# Altium schematic symbol library BAR43.SchLib: 2 symbols
Pins are listed as number, name and electrical type; pins without a type are passive.

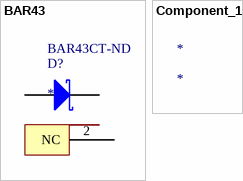
[diagram p0: symbols BAR43 to Component_1]

## BAR43
designator D?  Supplier Part Number 1: BAR43CT-ND
DIODE SCHOTTKY 30V 200MA SOT23-3; Manufacturer: Fairchild Semiconductor; Manufacturer Part Number: BAR43; Forward Voltage: 800mV; Current Rating: 200A; Reverse Recovery Time: 5ns; Max Forward Surge Current (Ifsm): 750mA; Element Configuration: Single; Peak Reverse Current: 500nA; Polarity: Standard; Supplier 1: Digikey; Stock 1: 14492; Pricing 1: 1=0.22, 10=0.178, 100=0.0943, 500=0.0621, 1000=0.0422 (USD); Mount: Surface Mount; Case/Package: SOT-23; Number of Pins: 3; Contact Plating: Tin; Min Operating Temperature: -55°C; Max Operating Temperature: 150°C; Packaging: Tape and Reel; Voltage Rating (DC): 30V; Forward Current: 200mA; Max Repetitive Reverse Voltage (Vrrm): 30V; Package Quantity: 3000; Reverse Voltage (DC): 30V; Average Rectified Current: 200mA; Peak Non-Repetitive Surge Current: 750mA; Max Surge Current: 750mA; Recovery Time: 5ns; Max Reverse Leakage Current: 500nA; Output Current: 200mA; Length: 2.92mm; Height: 0.93mm; Width: 1.3mm; Radiation Hardening: No; Lead Free: Lead Free; REACH SVHC: No SVHC; ComponentLink1URL: https://datasheet.ciiva.com/904/bar43-904392.pdf; ComponentLink1Description: https://datasheet.ciiva.com/904/bar43-904392.pdf; ComponentLink2URL: https://datasheet.ciiva.com/7965/1899813-7965125.pdf; ComponentLink2Description: https://datasheet.ciiva.com/7965/1899813-7965125.pdf; ComponentLink3URL: https://datasheet.ciiva.com/910/bar43-910475.pdf; ComponentLink3Description: https://datasheet.ciiva.com/910/bar43-910475.pdf; ComponentLink4URL: https://datasheet.ciiva.com/17004/bar43-17004267.pdf; ComponentLink4Description: https://datasheet.ciiva.com/17004/bar43-17004267.pdf; ComponentLink5URL: https://datasheet.ciiva.com/26230/bar43s-26230907.pdf; ComponentLink5Description: https://datasheet.ciiva.com/26230/bar43s-26230907.pdf; ComponentLink6URL: https://datasheet.ciiva.com/28468/668928-28468943.pdf; ComponentLink6Description: https://datasheet.ciiva.com/28468/668928-28468943.pdf
footprint SOT95P240X120-3N (SOT23, 3-Leads, Body 2.92x2.40mm, Pitch 0.95mm, IPC Medium Density)
pins: 1 A, 2 NC, 3 K

## Component_1
designator *